# Altium schematic symbol library FSA2275AUMX.SchLib: 1 symbol
Pins are listed as number, name and electrical type; pins without a type are passive.

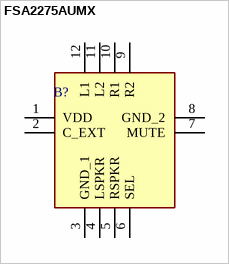
[diagram p0: symbol FSA2275AUMX]

## FSA2275AUMX
designator B?  (value not drawn)
ON Semiconductor FSA2275AUMX, Audio Switch IC DPDT, 3.3 V dc, 12-Pin UMLP; Manufacturer_Name: onsemi; Geometry.Height: 0.6mm; Manufacturer_Part_Number: FSA2275AUMX; Mouser Part Number: 512-FSA2275AUMX; Mouser Price/Stock: https://www.mouser.co.uk/ProductDetail/ON-Semiconductor-Fairchild/FSA2275AUMX?qs=Mv7BduZupUhxHdQdUdEuNg%3D%3D; Arrow Part Number: FSA2275AUMX; Arrow Price/Stock: https://www.arrow.com/en/products/fsa2275aumx/on-semiconductor; Datasheet Link: https://www.onsemi.com/pub/Collateral/FSA2275A-D.pdf
footprint FSA2275AUMX
pins: 1 VDD, 2 C_EXT, 3 GND_1, 4 LSPKR, 5 RSPKR, 6 SEL, 7 MUTE, 8 GND_2, 9 R2, 10 R1, 11 L2, 12 L1